# Altium footprint library 2x8header-footprint.PcbLib: 1 footprints
Each footprint in its own frame and in the unit in brackets; x right, y up, seen from the top. Pads: shape width x height; smd on the part's side, far side on the other; paste and mask are expansions set on the pad; w line width, h text height; cw(c..) or ccw(c..) is an arc to the next point about the centre after c.
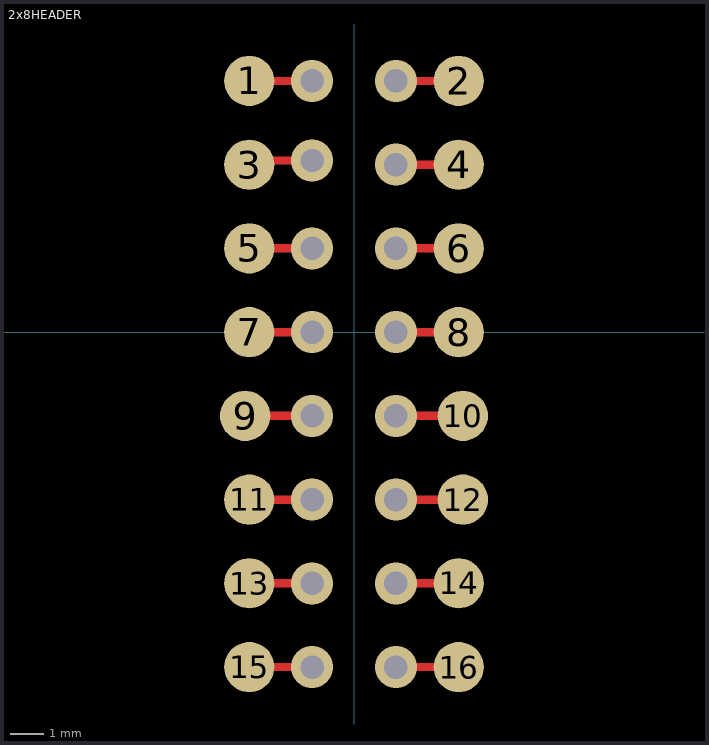
[diagram p0: the footprint, top view; thin cyan lines are the x and y axes]

## 2x8HEADER [mil] "1-826925-0"
pads (16):
  round 60 smd: 1(-125,300) 2(125,300) 3(-125,200) 4(125,200) 5(-125,100) 6(125,100) 7(-125,0) 8(125,0) 9(-130,-100) 10(130,-100) 11(-125,-200) 12(130,-200) 13(-125,-300) 14(125,-300) 15(-125,-400) 16(125,-400)
via 50,0 diameter 50 hole 28
via -50,0 diameter 50 hole 28
via -50,100 diameter 50 hole 28
via 50,100 diameter 50 hole 28
via 50,200 diameter 50 hole 28
via -50,205 diameter 50 hole 28
via -50,300 diameter 50 hole 28
via 50,300 diameter 50 hole 28
via -50,-100 diameter 50 hole 28
via 50,-100 diameter 50 hole 28
via 50,-200 diameter 50 hole 28
via -50,-200 diameter 50 hole 28
via -50,-300 diameter 50 hole 28
via 50,-300 diameter 50 hole 28
via 50,-400 diameter 50 hole 28
via -50,-400 diameter 50 hole 28
Top Layer:
  lines w10: -130,-100 -50,-100 ; -125,-400 -50,-400 ; -125,-300 -50,-300 ; -125,-200 -50,-200 ; -125,0 -50,0 ; -125,100 -50,100 ; -125,300 -50,300 ; -120,205 -50,205 ; 50,-400 125,-400 ; 50,-300 125,-300 ; 50,-200 130,-200 ; 50,-100 130,-100 ; 50,0 125,0 ; 50,100 125,100 ; 50,200 125,200 ; 50,300 125,300